# Altium schematic symbol library v8br-1ax1-gh.SchLib: 1 symbol
Pins are listed as number, name and electrical type; pins without a type are passive.

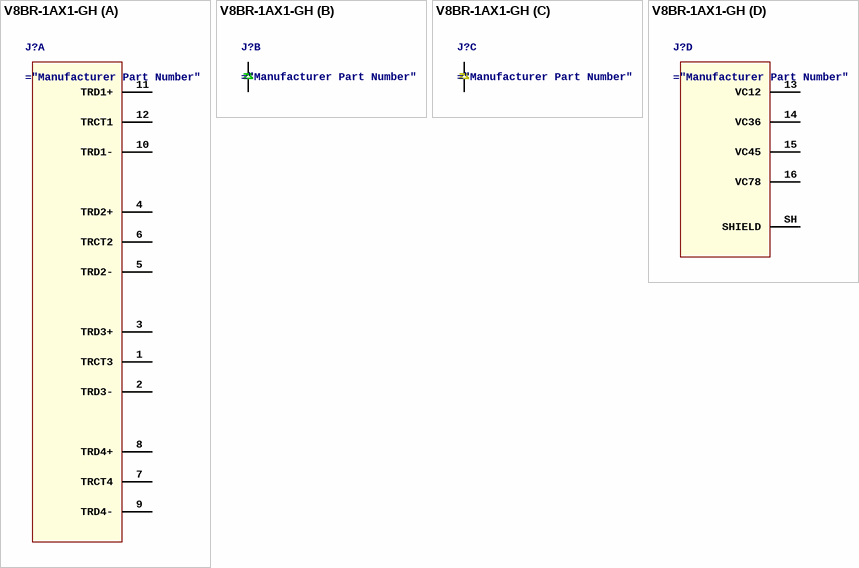
[diagram p0: symbol V8BR-1AX1-GH]

## V8BR-1AX1-GH
designator J?
Conn RJ-45 F 8 POS 1.02mm Solder ST Thru-Hole 20 Terminal 1 Port Tray
part A pins: 1 TRCT3, 2 TRD3-, 3 TRD3+, 4 TRD2+, 5 TRD2-, 6 TRCT2, 7 TRCT4, 8 TRD4+, 9 TRD4-, 10 TRD1-, 11 TRD1+, 12 TRCT1
part B pins: 19, 20
part C pins: 17, 18
part D pins: 13 VC12, 14 VC36, 15 VC45, 16 VC78, SH SHIELD